# Altium schematic symbol library G6S-2.SchLib: 1 symbol
Pins are listed as number, name and electrical type; pins without a type are passive.

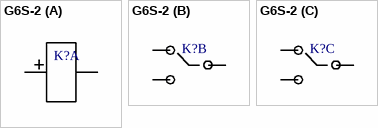
[diagram p0: symbol G6S-2]

## G6S-2
designator K?
part A pins: 1 +, 12 -
part B pins: 3  , 4  , 5  
part C pins: 8  , 9  , 10  